# EAGLE library part TRADITIONALJTAG/SWD (library BiomedicalImagingLibrary)
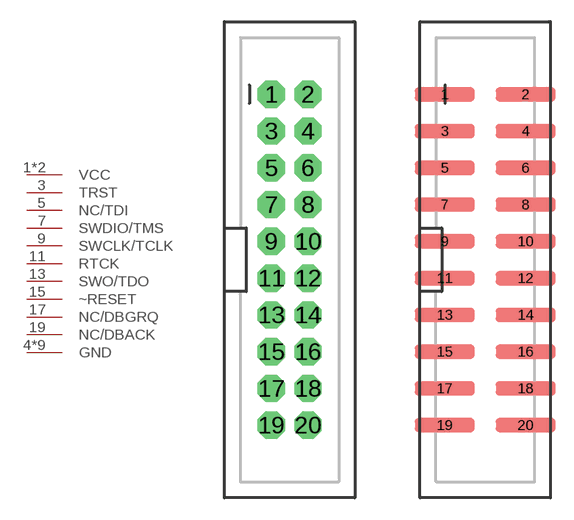
[diagram p14: symbol with the pads of 2X10_0.1"_TH_SH; footprints 2X10_0.1"_TH_SH, 2X10_SMD_SH]

Designator prefix -

## TRADITIONALJTAG/SWDTH_SHROUDED  [2X10_0.1"_TH_SH]
1  VCC
2  VCC
3  TRST
4  GND
5  NC/TDI
6  GND
7  SWDIO/TMS
8  GND
9  SWCLK/TCLK
10  GND
11  RTCK
12  GND
13  SWO/TDO
14  GND
15  ~RESET
16  GND
17  NC/DBGRQ
18  GND
19  NC/DBACK
20  GND

## TRADITIONALJTAG/SWDSMD_SHROUDED  [2X10_SMD_SH]
Pads as for 2X10_0.1"_TH_SH

## TRADITIONALJTAG/SWDSMD_UNSHROUDED  [2X10-0.1"_SMD_NS]
Pads as for 2X10_0.1"_TH_SH

## Footprint 2X10_0.1"_TH_SH (pad centres in mm)
drill 1.016 pad 1.88 octagon: 1 -1.27,5.08; 2 1.27,5.08; 3 -1.27,2.54; 4 1.27,2.54; 5 -1.27,0; 6 1.27,0; 7 -1.27,-2.54; 8 1.27,-2.54; 9 -1.27,-5.08; 10 1.27,-5.08; 11 -1.27,-7.62; 12 1.27,-7.62; 13 -1.27,-10.16; 14 1.27,-10.16; 15 -1.27,-12.7; 16 1.27,-12.7; 17 -1.27,-15.24; 18 1.27,-15.24; 19 -1.27,-17.78; 20 1.27,-17.78

## Footprint 2X10_SMD_SH (pad centres in mm)
smd 4.15 x 1: 1 -2.794,5.08; 2 2.794,5.08; 3 -2.794,2.54; 4 2.794,2.54; 5 -2.794,0; 6 2.794,0; 7 -2.794,-2.54; 8 2.794,-2.54; 9 -2.794,-5.08; 10 2.794,-5.08; 11 -2.794,-7.62; 12 2.794,-7.62; 13 -2.794,-10.16; 14 2.794,-10.16; 15 -2.794,-12.7; 16 2.794,-12.7; 17 -2.794,-15.24; 18 2.794,-15.24; 19 -2.794,-17.78; 20 2.794,-17.78

## Footprint 2X10-0.1"_SMD_NS (pad centres in mm)
smd 4.15 x 1: 1 -2.794,11.43; 2 2.794,11.43; 3 -2.794,8.89; 4 2.794,8.89; 5 -2.794,6.35; 6 2.794,6.35; 7 -2.794,3.81; 8 2.794,3.81; 9 -2.794,1.27; 10 2.794,1.27; 11 -2.794,-1.27; 12 2.794,-1.27; 13 -2.794,-3.81; 14 2.794,-3.81; 15 -2.794,-6.35; 16 2.794,-6.35; 17 -2.794,-8.89; 18 2.794,-8.89; 19 -2.794,-11.43; 20 2.794,-11.43